# EAGLE library part BD9001F (library snow)
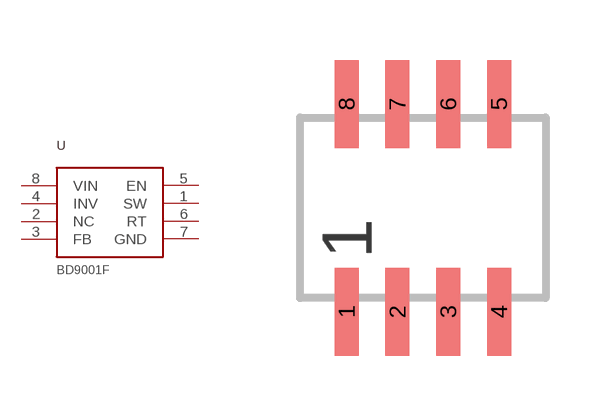
[diagram p2: symbol with the pads of SOP8; footprint SOP8]

Designator prefix -

## BD9001F  [SOP8]
1  SW
2  NC
3  FB
4  INV
5  EN
6  RT
7  GND
8  VIN

## Footprint SOP8 (pad centres in mm)
smd 0.6 x 2.2: 1 -1.905,-2.6; 2 -0.635,-2.6; 3 0.635,-2.6; 4 1.905,-2.6; 5 1.905,2.6; 6 0.635,2.6; 7 -0.635,2.6; 8 -1.905,2.6